# Altium footprint library MyLib.PcbLib: 92 footprints (part 1 of 6)
Each footprint in its own frame and in the unit in brackets; x right, y up, seen from the top. Pads: shape width x height; smd on the part's side, far side on the other; paste and mask are expansions set on the pad; w line width, h text height; cw(c..) or ccw(c..) is an arc to the next point about the centre after c.
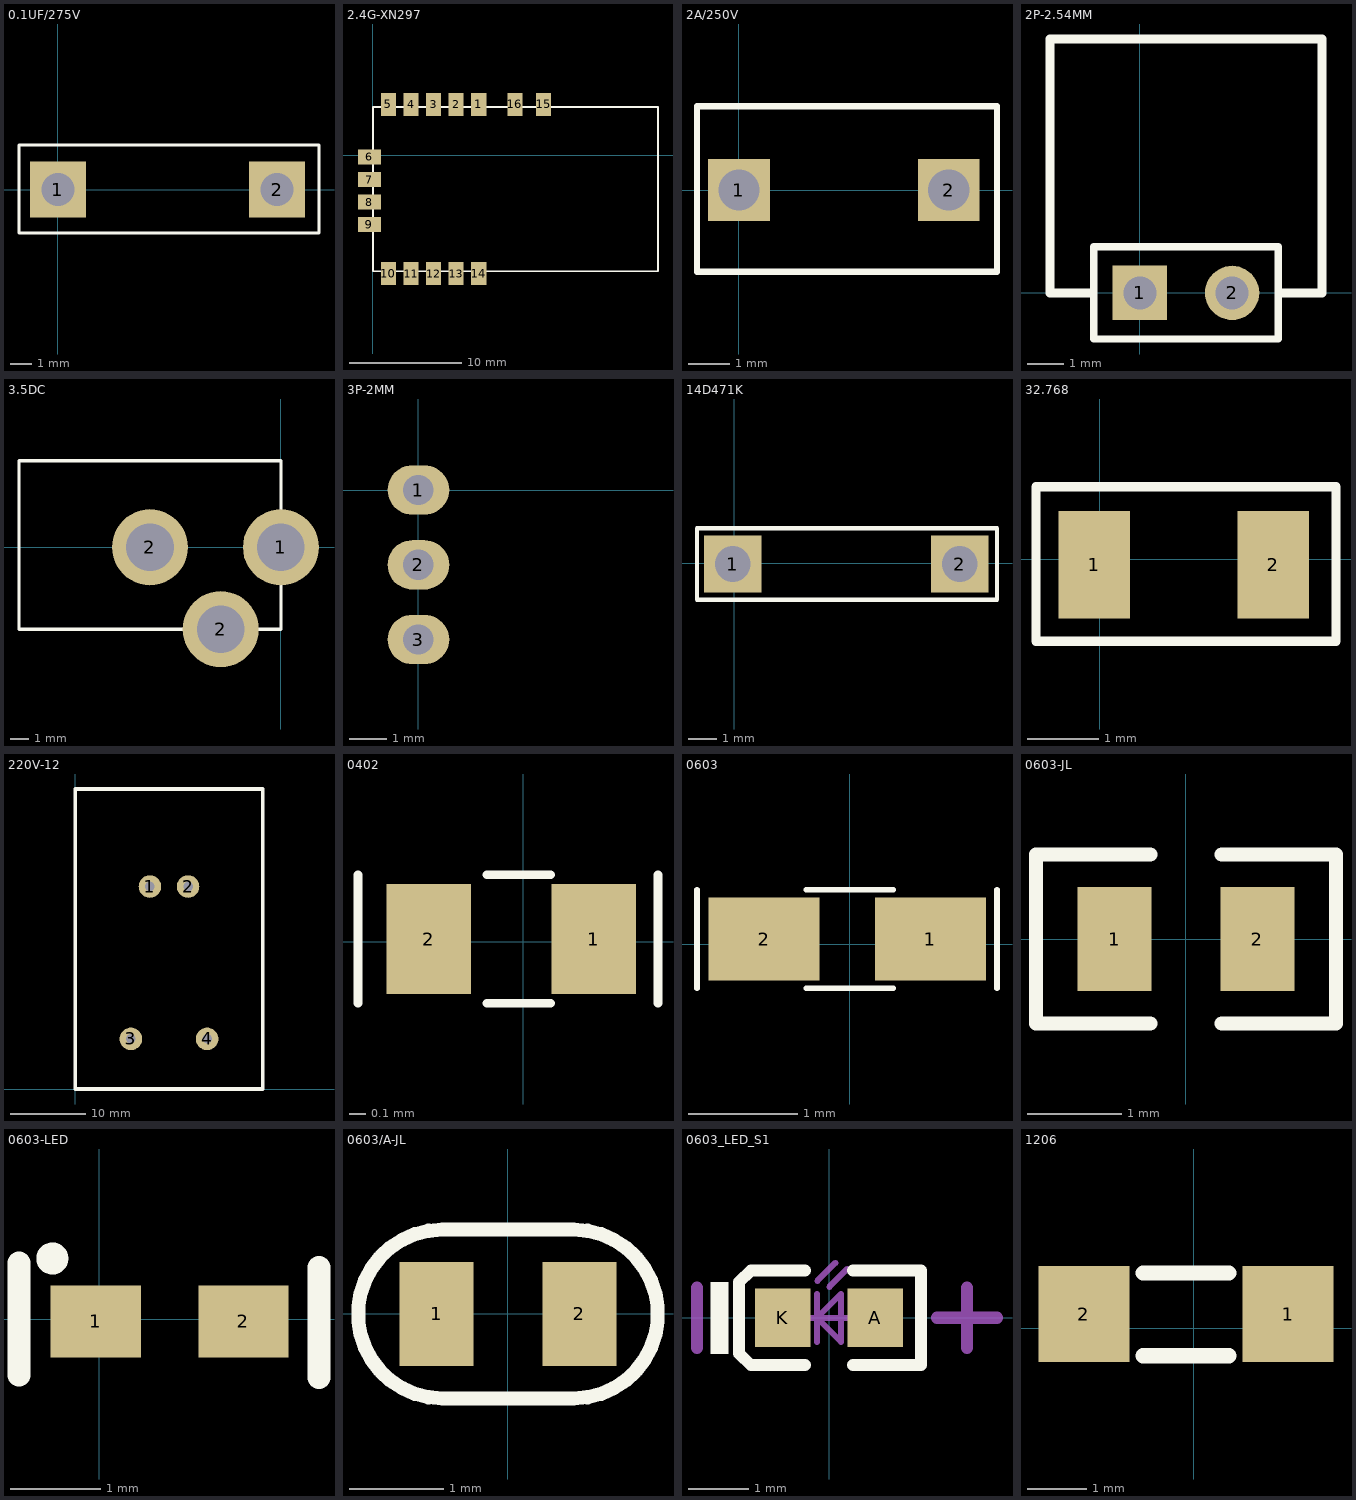
[diagram p0: the footprints below, top view; thin cyan lines are the x and y axes]

## 0.1UF/275V [mm]
pads (2):
  rect 2.55x2.55 hole 1.5: 1(0,0) 2(10,0)
Top Overlay:
  lines w0.152: 11.887,2.032 -1.778,2.032 -1.778,-1.981 11.913,-1.981 11.913,2.032

## 2.4G-XN297 [mil]
pads (16):
  rect 53x80 smd: 1(369.52,177.17) 5(54.56,177.17) 10(54.56,-413.39) 14(369.52,-413.39) 15(596,177.16) 16(496,177.16)
  rect 52x80 smd: 2(290.78,177.17) 3(212.04,177.17) 4(133.3,177.17) 11(133.3,-413.39) 12(212.04,-413.39) 13(290.78,-413.39)
  rect 80x52 smd: 6(-11.81,-6.35) 7(-11.81,-85.09) 8(-11.81,-163.83)
  rect 80x53 smd: 9(-11.81,-242.57)
Top Overlay:
  lines w6: 995.52,165.43 995.52,-405.57 0.52,-405.57 0.52,168.43 995.52,168.43

## 2A/250V [mm]
pads (2):
  rect 1.5x1.5 hole 1: 1(0,0) 2(5.08,0)
Top Overlay:
  lines w0.152: -1.016,-1.981 6.248,-1.981 6.248,2.032 -1.016,2.032 -1.016,-1.981

## 2P-2.54MM [mm]
height 1.3
pads (2):
  rect 1.5x1.5 hole 0.9: 1(0,0)
  round 1.5 hole 0.9: 2(2.54,0)
Top Overlay:
  lines w0.2: -1.27,-1.27 -1.27,1.27 3.81,1.27 3.81,-1.27 -1.27,-1.27
  lines w0.254: -1.4,0 -2.48,0 -2.48,7 5.02,7 5.02,0 3.9,0
3D body: height 6, standoff 0, extent -2.21,0.051 4.75,7.112
3D body: height 1, standoff -1.6, extent 2.21,-0.305 2.87,0.279
3D body: height 1, standoff -1.6, extent -0.33,-0.305 0.33,0.279

## 3.5DC [mil]
height 166.54
pads (3):
  round 160 hole 100: 1(0,0) 2(-275.59,0) 2(-126.77,-172.44)
Top Overlay:
  lines w7: -551.18,-172.44 0,-172.44 0,181.89 -551.18,181.89 -551.18,-172.44

## 3P-2MM [mil]
pads (3):
  oval 65x52 hole 32: 1(0,0) 2(0,-78.74) 3(0,-157.48)
Bottom Overlay:
  lines w10: -55.63,-235.91 -55.63,80.09 244.37,80.09 244.37,-235.91 -55.63,-235.91

## 14D471K [mil]
pads (2):
  rect 80x80 hole 50: 1(-2,-1) 2(314.96,-1)
Top Overlay:
  lines w6: 367,48 367,-51 -52,-51 -52,49 367,49

## 32.768 [mm]
pads (2):
  rect 1x1.5 smd: 1(-0.076,-0.076) 2(2.424,-0.076)
Top Overlay:
  lines w0.127: -0.889,-1.143 -0.889,1.016 3.302,1.016 3.302,-1.143 -0.889,-1.143

## 220V-12 [mm]
pads (4):
  round 3 hole 1.27: 1(9.96,27) 2(15.04,27) 3(7.42,6.68) 4(17.58,6.68)
Top Overlay:
  lines w0.508: 0,0 0,40 25,40 25,0 0,0

## 0402 [mm]
pads (2):
  rect 0.5x0.65 smd: 1(0.417,0.016) 2(-0.561,0.016)
Top Overlay:
  lines w0.051: -0.98,-0.365 -0.98,0.397 ; -0.218,-0.365 0.163,-0.365 ; -0.218,0.397 0.163,0.397 ; 0.798,-0.365 0.798,0.397

## 0603 [mil]
pads (2):
  rect 40x30 smd: 1(29.11,1.96) 2(-30.89,1.96)
Top Overlay:
  lines w2: -55.12,-15.75 -55.12,19.68 ; -15.75,-15.75 15.75,-15.75 ; -15.75,19.68 15.75,19.68 ; 53.11,-15.75 53.11,19.68

## 0603-JL [mm]
height 0.8
pads (2):
  rect 0.787x1.11 smd: 1(-0.761,0) 2(0.762,0)
Top Overlay:
  lines w0.15: -0.381,-0.9 -1.6,-0.9 -1.6,0.9 -0.381,0.9 ; 0.381,-0.9 1.6,-0.9 1.6,0.9 0.381,0.9

## 0603-LED [mm]
pads (2):
  rect 1x0.8 smd: 1(-0.038,-0.025) 2(1.6,-0.025)
Top Overlay:
  circle w0.178: c-0.52,0.673 r0.089
  lines w0.254: -0.889,-0.622 -0.889,0.622 ; 2.438,-0.648 2.438,0.572

## 0603/A-JL [mm]
height 0.8
pads (2):
  rect 0.787x1.11 smd: 1(-0.762,0) 2(0.761,0)
Top Overlay:
  lines w0.15: -0.7,-0.9 cw(c-0.7,0) -0.7,0.9 0.7,0.9 cw(c0.7,0) 0.7,-0.9 -0.7,-0.9

## 0603_LED_S1 [mm]
height 6.86
pads (2):
  rect 0.93x0.98 smd: A(0.77,0) K(-0.77,0)
Top Overlay:
  rectangle: -1.975,-0.6 -1.675,0.6
  lines w0.2: -0.4,-0.79 -1.3,-0.79 -1.5,-0.597 -1.5,0.597 -1.3,0.79 -0.4,0.79 ; 0.4,-0.79 1.535,-0.79 1.535,0.79 0.4,0.79
Mechanical 13:
  lines w0.1: -0.4,0 0.4,0 ; -0.2,-0.4 -0.2,0.4 ; -0.195,0.617 0.105,0.917 ; 0.005,0.517 0.305,0.817 ; -0.2,0 0.2,0.4 0.2,-0.4 -0.2,0
Mechanical 15:
  lines w0.203: -2.2,-0.5 -2.2,0.5 ; 1.8,0 2.8,0 ; 2.3,-0.5 2.3,0.5
3D body "User Library-LED_0603_R.STEP": height 0.6, standoff 0, extent -0.8,-0.4 0.8,0.4

## 1206 [mm]
pads (2):
  rect 1.52x1.6 smd: 1(1.581,0.237) 2(-1.835,0.237)
Top Overlay:
  lines w0.254: -0.845,-0.462 0.59,-0.462 ; -0.845,0.922 0.59,0.922
3D body: height 0.6, standoff 0, extent -1.276,-0.602 1.01,1.075
3D body: height 0.6, standoff 0, extent 1.01,-0.602 1.518,1.075
3D body: height 0.6, standoff 0, extent -1.784,-0.602 -1.276,1.075